# EAGLE library part CP2114 (library silicon_labs)
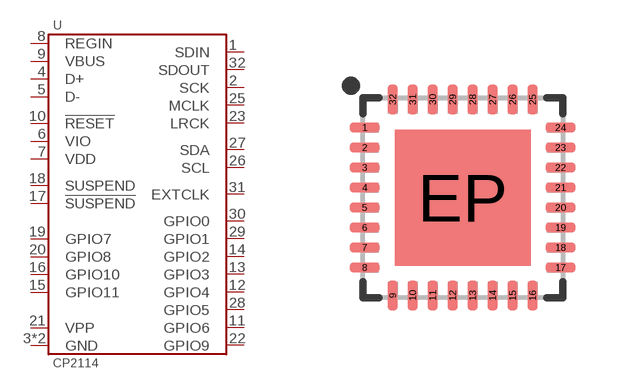
[diagram p1: symbol with the pads of QFN-32-5X5; footprint QFN-32-5X5]

Designator prefix U

## CP2114-B01-GM  [QFN-32-5X5]
1  SDIN
2  SCK
3  GND
4  D+
5  D-
6  VIO
7  VDD
8  REGIN
9  VBUS
10  !RESET
11  GPIO6
12  GPIO4
13  GPIO3
14  GPIO2
15  GPIO11
16  GPIO10
17  !SUSPEND
18  SUSPEND
19  GPIO7
20  GPIO8
21  VPP
22  GPIO9
23  LRCK
25  MCLK
26  SCL
27  SDA
28  GPIO5
29  GPIO1
30  GPIO0
31  EXTCLK
32  SDOUT
EP  GND

## Footprint QFN-32-5X5 (pad centres in mm)
smd 0.75 x 0.25: 1 -2.45,1.75; 2 -2.45,1.25; 3 -2.45,0.75; 4 -2.45,0.25; 5 -2.45,-0.25; 6 -2.45,-0.75; 7 -2.45,-1.25; 8 -2.45,-1.75; 17 2.45,-1.75; 18 2.45,-1.25; 19 2.45,-0.75; 20 2.45,-0.25; 21 2.45,0.25; 22 2.45,0.75; 23 2.45,1.25; 24 2.45,1.75
smd 0.25 x 0.75: 9 -1.75,-2.45; 10 -1.25,-2.45; 11 -0.75,-2.45; 12 -0.25,-2.45; 13 0.25,-2.45; 14 0.75,-2.45; 15 1.25,-2.45; 16 1.75,-2.45; 25 1.75,2.45; 26 1.25,2.45; 27 0.75,2.45; 28 0.25,2.45; 29 -0.25,2.45; 30 -0.75,2.45; 31 -1.25,2.45; 32 -1.75,2.45
smd 3.4 x 3.4: EP 0,0